# Altium integrated library TI Data Converters Analog to Digital Converter.IntLib: 2197 symbols (part 154 of 168)
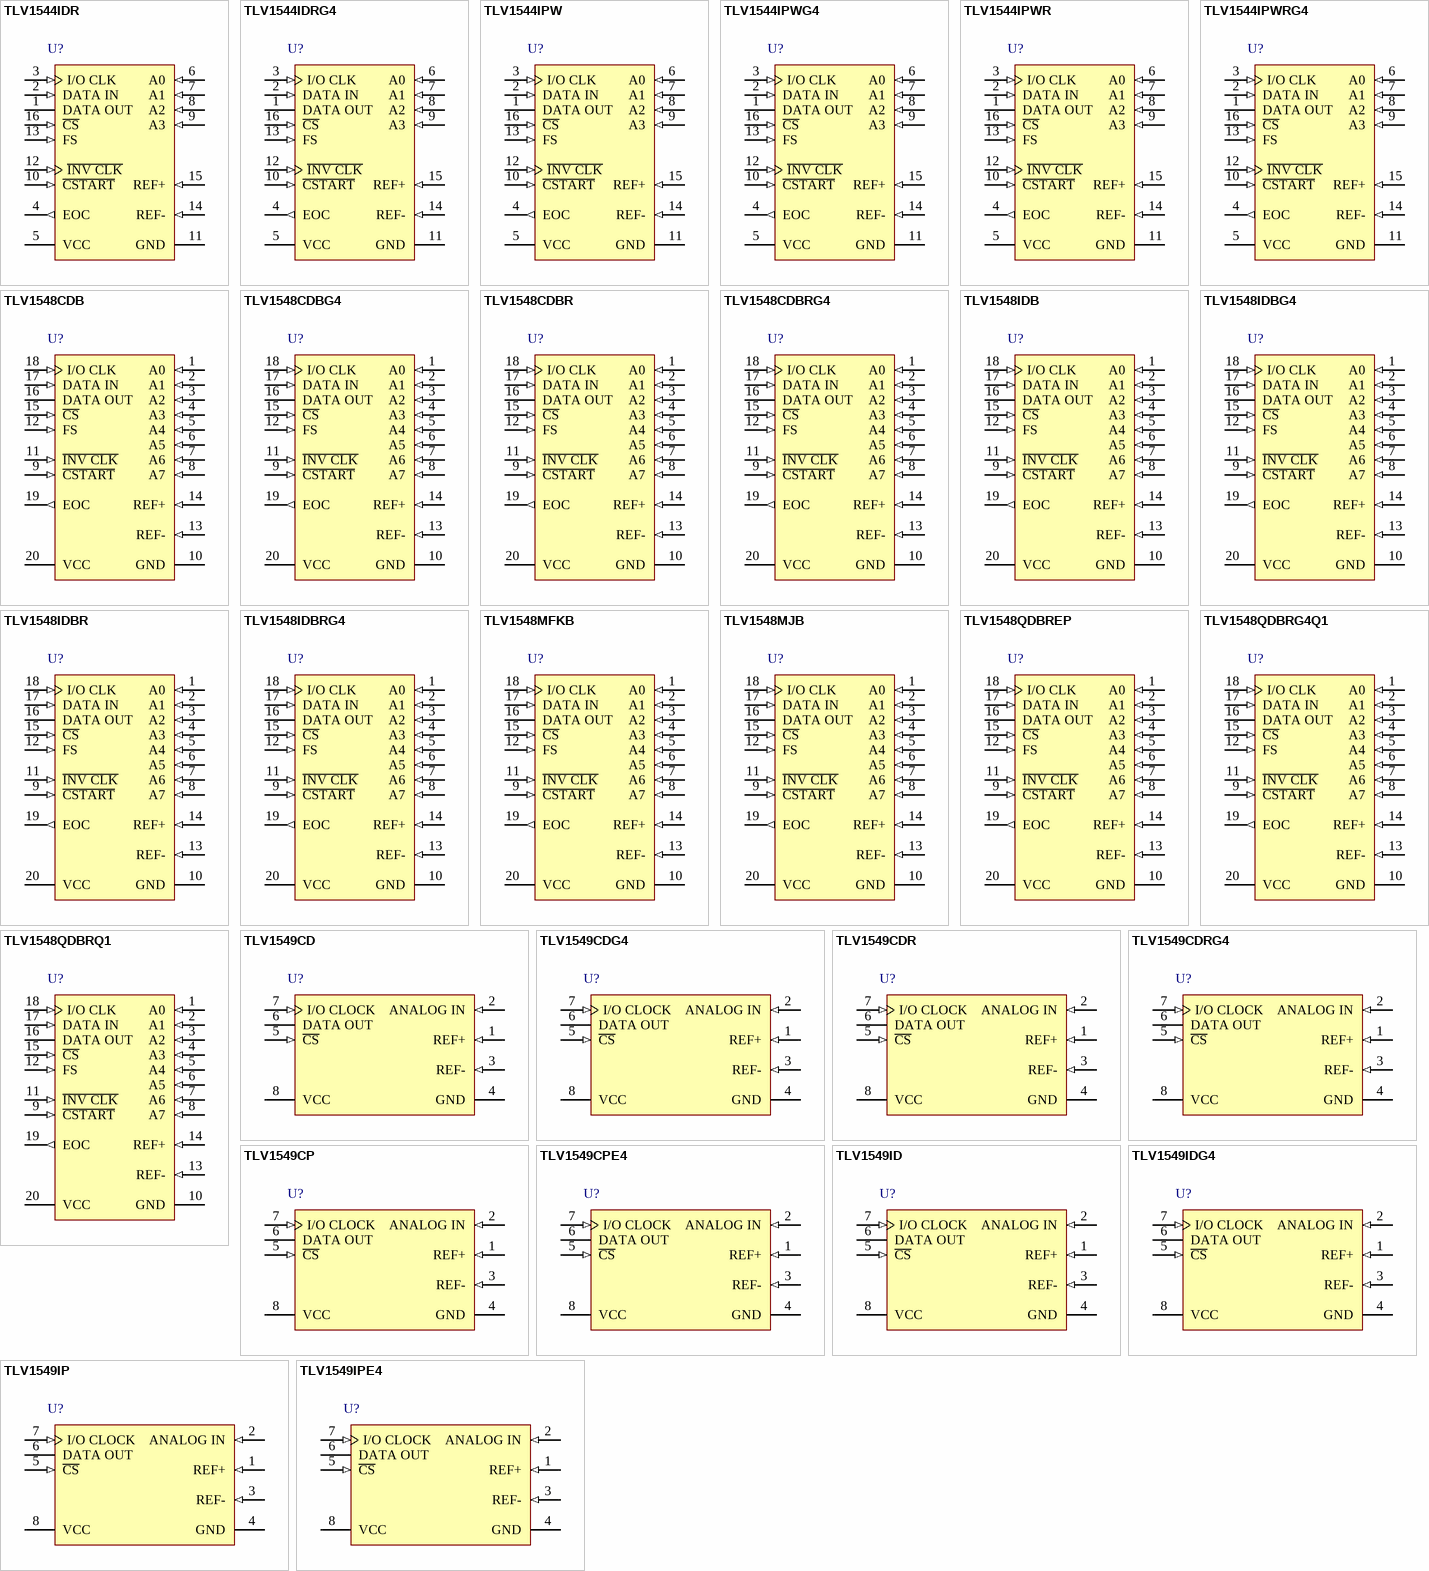
[diagram p279: symbols TLV1544IDR to TLV1549IPE4]

## TLV1548CDBRG4
designator U?
10-Bit 85 kSPS ADC Serial Out, Programable Power / Power Down / Conversion Rate, TMS320 DSP / SPI / QPSI Compatible, 8 Channel, 0 to 70 degC, 20-pin SOP (DB20), Green (RoHS & no Sb/Br); Manufacturer: Texas Instruments; PartNumber: TLV1548CDBRG4; # Input Channels: 8; Analog Voltage AV/DD(Max)(V): 5.5; Analog Voltage AV/DD(Min)(V): 2.7; Architecture: SAR; INL(Max)(+/-LSB): 1; Interface: Serial SPI; Resolution(Bits): 10; Sample Rate (max)(SPS): 85k; SubFamily: Precision ADC (<=10MSPS); DatasheetVersion: SLAS139C; PackageVersion: 4040065/E, 12/2001; PackageReference: DB20; PackageDescription: 20-Pin Plastic Small Outline, Body 5.3 x 7.2 mm, Pitch 0.65 mm; Supplier 1: Digi-Key; Supplier Part Number 1: 296-27543-ND; Supplier 2: Mouser; Supplier Part Number 2: 595-ADS58C48IPFP; Digital Supply(Max)(V): 5.5; Digital Supply(Min)(V): 2.7; Eco-Plan: Green (RoHS & no Sb/Br); Mounting Technology: Surface Mount; Code_JEDEC: MO-150; ComponentLink1Description: Manufacturer URL; ComponentLink1URL: http://www.ti.com/; ComponentLink2Description: Datasheet; ComponentLink2URL: http://www.ti.com/general/docs/lit/getliterature.tsp?genericPartNumber=TLV1548&fileType=pdf; ComponentLink3Description: Package Specification; ComponentLink3URL: http://www.ti.com/lit/ml/msso002e/msso002e.pdf
footprint TI-DB20_N (SOP, 20-Leads, Body 7.2x5.3mm, Pitch 0.65mm, IPC Medium Density)
footprint TI-DB20_L (SOP, 20-Leads, Body 7.2x5.3mm, Pitch 0.65mm, IPC High Density)
footprint TI-DB20_M (SOP, 20-Leads, Body 7.2x5.3mm, Pitch 0.65mm, IPC Low Density)
pins: 1 A0 (in) "Analog inputs. The analog inputs are internally multiplexed. (For a source impedance greater than 1 kohm, the asynchronous start should be used to increase the sampling time.)", 2 A1 (in) "Analog inputs. The analog inputs are internally multiplexed. (For a source impedance greater than 1 kohm, the asynchronous start should be used to increase the sampling time.)", 3 A2 (in) "Analog inputs. The analog inputs are internally multiplexed. (For a source impedance greater than 1 kohm, the asynchronous start should be used to increase the sampling time.)", 4 A3 (in) "Analog inputs. The analog inputs are internally multiplexed. (For a source impedance greater than 1 kohm, the asynchronous start should be used to increase the sampling time.)", 5 A4 (in) "Analog inputs. The analog inputs are internally multiplexed. (For a source impedance greater than 1 kohm, the asynchronous start should be used to increase the sampling time.)", 6 A5 (in) "Analog inputs. The analog inputs are internally multiplexed. (For a source impedance greater than 1 kohm, the asynchronous start should be used to increase the sampling time.)", 7 A6 (in) "Analog inputs. The analog inputs are internally multiplexed. (For a source impedance greater than 1 kohm, the asynchronous start should be used to increase the sampling time.)", 8 A7 (in) "Analog inputs. The analog inputs are internally multiplexed. (For a source impedance greater than 1 kohm, the asynchronous start should be used to increase the sampling time.)", 9 ~{CSTART} (in) "Sampling/conversion start control. C\S\T\A\R\T\ controls the start of the sampling of an analog input from a selected multiplex channel. A high-to-low transition starts the sampling of the analog input signal. A low-to-high (See Datasheet)", 10 GND (power) "Ground return for internal circuitry. All voltage measurements are with respect to GND, unless otherwise noted.", 11 ~{INV CLK} (in) "Inverted clock input. I\N\V\ \C\L\K\ is tied to GND when an inverted I/O CLK is used as the source of the input clock. This affects both microprocessor and DSP interfaces. I\N\V\ \C\L\K\ is tied to VCC if I/O CLK is not (See Datasheet)", 12 FS (in) "DSP frame synchronization input. FS indicates the start of a serial data frame into or out of the device. FS is tied to VCC when interfacing the device with a microprocessor.", 13 REF- (in) "Lower reference voltage (nominally ground)", 14 REF+ (in) "Upper reference voltage (nominally VCC ). The maximum input voltage range is determined by the difference between the voltages applied to REF+ and REF-.", 15 ~{CS} (in) "Chip select. A high-to-low transition on C\S\ resets the internal counters and controls and enables DATA IN, DATA OUT, and I/O CLK within the maximum setup time. A low-to-high transition disables DATA IN, DATA OUT, and I/O (See Datasheet)", 16 DATA OUT (hiz) "The 3-state serial output for the A/D conversion result. DATA OUT is in the high-impedance state when C\S\ is high and active when C\S\ is low. With a valid C\S\, DATA OUT is removed from the high-impedance state and is (See Datasheet)", 17 DATA IN (in) "Serial data input. The 4-bit serial data selects the desired analog input and test voltage to be converted next in a normal cycle. These bits can also set the conversion rate and enable the power-down mode.", 18 I/O CLK (in) "Input/output clock. I/O CLK receives the serial I/O clock input in the two modes and performs the following four functions in each mode:", 19 EOC (out) "End of conversion. EOC goes from a high to a low logic level on the tenth rising (microprocessor mode) or tenth falling (DSP mode) edge of I/O CLK and remains low until the conversion is complete and data is ready for (See Datasheet)", 20 VCC (power) "Positive supply voltage"

## TLV1548IDB
designator U?
10-Bit 85 kSPS ADC Serial Out, Programable Power / Power Down / Conversion Rate, TMS320 DSP / SPI / QPSI Compatible, 8 Channel, -40 to 85 degC, 20-pin SOP (DB20), Green (RoHS & no Sb/Br); Manufacturer: Texas Instruments; PartNumber: TLV1548IDB; # Input Channels: 8; Analog Voltage AV/DD(Max)(V): 5.5; Analog Voltage AV/DD(Min)(V): 2.7; Architecture: SAR; INL(Max)(+/-LSB): 1; Interface: Serial SPI; Resolution(Bits): 10; Sample Rate (max)(SPS): 85k; SubFamily: Precision ADC (<=10MSPS); DatasheetVersion: SLAS139C; PackageVersion: 4040065/E, 12/2001; PackageReference: DB20; PackageDescription: 20-Pin Plastic Small Outline, Body 5.3 x 7.2 mm, Pitch 0.65 mm; Supplier 1: Digi-Key; Supplier Part Number 1: ADS58C48IPFPR-ND; Supplier 2: Mouser; Supplier Part Number 2: 595-ADS58C48IPFPR; Digital Supply(Max)(V): 5.5; Digital Supply(Min)(V): 2.7; Eco-Plan: Green (RoHS & no Sb/Br); Mounting Technology: Surface Mount; Code_JEDEC: MO-150; ComponentLink1Description: Manufacturer URL; ComponentLink1URL: http://www.ti.com/; ComponentLink2Description: Datasheet; ComponentLink2URL: http://www.ti.com/general/docs/lit/getliterature.tsp?genericPartNumber=TLV1548&fileType=pdf; ComponentLink3Description: Package Specification; ComponentLink3URL: http://www.ti.com/lit/ml/msso002e/msso002e.pdf
footprint TI-DB20_N (SOP, 20-Leads, Body 7.2x5.3mm, Pitch 0.65mm, IPC Medium Density)
footprint TI-DB20_L (SOP, 20-Leads, Body 7.2x5.3mm, Pitch 0.65mm, IPC High Density)
footprint TI-DB20_M (SOP, 20-Leads, Body 7.2x5.3mm, Pitch 0.65mm, IPC Low Density)
pins: 1 A0 (in) "Analog inputs. The analog inputs are internally multiplexed. (For a source impedance greater than 1 kohm, the asynchronous start should be used to increase the sampling time.)", 2 A1 (in) "Analog inputs. The analog inputs are internally multiplexed. (For a source impedance greater than 1 kohm, the asynchronous start should be used to increase the sampling time.)", 3 A2 (in) "Analog inputs. The analog inputs are internally multiplexed. (For a source impedance greater than 1 kohm, the asynchronous start should be used to increase the sampling time.)", 4 A3 (in) "Analog inputs. The analog inputs are internally multiplexed. (For a source impedance greater than 1 kohm, the asynchronous start should be used to increase the sampling time.)", 5 A4 (in) "Analog inputs. The analog inputs are internally multiplexed. (For a source impedance greater than 1 kohm, the asynchronous start should be used to increase the sampling time.)", 6 A5 (in) "Analog inputs. The analog inputs are internally multiplexed. (For a source impedance greater than 1 kohm, the asynchronous start should be used to increase the sampling time.)", 7 A6 (in) "Analog inputs. The analog inputs are internally multiplexed. (For a source impedance greater than 1 kohm, the asynchronous start should be used to increase the sampling time.)", 8 A7 (in) "Analog inputs. The analog inputs are internally multiplexed. (For a source impedance greater than 1 kohm, the asynchronous start should be used to increase the sampling time.)", 9 ~{CSTART} (in) "Sampling/conversion start control. C\S\T\A\R\T\ controls the start of the sampling of an analog input from a selected multiplex channel. A high-to-low transition starts the sampling of the analog input signal. A low-to-high (See Datasheet)", 10 GND (power) "Ground return for internal circuitry. All voltage measurements are with respect to GND, unless otherwise noted.", 11 ~{INV CLK} (in) "Inverted clock input. I\N\V\ \C\L\K\ is tied to GND when an inverted I/O CLK is used as the source of the input clock. This affects both microprocessor and DSP interfaces. I\N\V\ \C\L\K\ is tied to VCC if I/O CLK is not (See Datasheet)", 12 FS (in) "DSP frame synchronization input. FS indicates the start of a serial data frame into or out of the device. FS is tied to VCC when interfacing the device with a microprocessor.", 13 REF- (in) "Lower reference voltage (nominally ground)", 14 REF+ (in) "Upper reference voltage (nominally VCC ). The maximum input voltage range is determined by the difference between the voltages applied to REF+ and REF-.", 15 ~{CS} (in) "Chip select. A high-to-low transition on C\S\ resets the internal counters and controls and enables DATA IN, DATA OUT, and I/O CLK within the maximum setup time. A low-to-high transition disables DATA IN, DATA OUT, and I/O (See Datasheet)", 16 DATA OUT (hiz) "The 3-state serial output for the A/D conversion result. DATA OUT is in the high-impedance state when C\S\ is high and active when C\S\ is low. With a valid C\S\, DATA OUT is removed from the high-impedance state and is (See Datasheet)", 17 DATA IN (in) "Serial data input. The 4-bit serial data selects the desired analog input and test voltage to be converted next in a normal cycle. These bits can also set the conversion rate and enable the power-down mode.", 18 I/O CLK (in) "Input/output clock. I/O CLK receives the serial I/O clock input in the two modes and performs the following four functions in each mode:", 19 EOC (out) "End of conversion. EOC goes from a high to a low logic level on the tenth rising (microprocessor mode) or tenth falling (DSP mode) edge of I/O CLK and remains low until the conversion is complete and data is ready for (See Datasheet)", 20 VCC (power) "Positive supply voltage"

## TLV1548IDBG4
designator U?
10-Bit 85 kSPS ADC Serial Out, Programable Power / Power Down / Conversion Rate, TMS320 DSP / SPI / QPSI Compatible, 8 Channel, -40 to 85 degC, 20-pin SOP (DB20), Green (RoHS & no Sb/Br); Manufacturer: Texas Instruments; PartNumber: TLV1548IDBG4; # Input Channels: 8; Analog Voltage AV/DD(Max)(V): 5.5; Analog Voltage AV/DD(Min)(V): 2.7; Architecture: SAR; INL(Max)(+/-LSB): 1; Interface: Serial SPI; Resolution(Bits): 10; Sample Rate (max)(SPS): 85k; SubFamily: Precision ADC (<=10MSPS); DatasheetVersion: SLAS139C; PackageVersion: 4040065/E, 12/2001; PackageReference: DB20; PackageDescription: 20-Pin Plastic Small Outline, Body 5.3 x 7.2 mm, Pitch 0.65 mm; Supplier 1: Digi-Key; Supplier Part Number 1: ADS1298CZXGR-ND; Supplier 2: Newark; Supplier Part Number 2: 79R7801; Supplier 3: Mouser; Supplier Part Number 3: 595-ADS1298CZXGR; Digital Supply(Max)(V): 5.5; Digital Supply(Min)(V): 2.7; Eco-Plan: Green (RoHS & no Sb/Br); Mounting Technology: Surface Mount; Code_JEDEC: MO-150; ComponentLink1Description: Manufacturer URL; ComponentLink1URL: http://www.ti.com/; ComponentLink2Description: Datasheet; ComponentLink2URL: http://www.ti.com/general/docs/lit/getliterature.tsp?genericPartNumber=TLV1548&fileType=pdf; ComponentLink3Description: Package Specification; ComponentLink3URL: http://www.ti.com/lit/ml/msso002e/msso002e.pdf
footprint TI-DB20_N (SOP, 20-Leads, Body 7.2x5.3mm, Pitch 0.65mm, IPC Medium Density)
footprint TI-DB20_L (SOP, 20-Leads, Body 7.2x5.3mm, Pitch 0.65mm, IPC High Density)
footprint TI-DB20_M (SOP, 20-Leads, Body 7.2x5.3mm, Pitch 0.65mm, IPC Low Density)
pins: 1 A0 (in) "Analog inputs. The analog inputs are internally multiplexed. (For a source impedance greater than 1 kohm, the asynchronous start should be used to increase the sampling time.)", 2 A1 (in) "Analog inputs. The analog inputs are internally multiplexed. (For a source impedance greater than 1 kohm, the asynchronous start should be used to increase the sampling time.)", 3 A2 (in) "Analog inputs. The analog inputs are internally multiplexed. (For a source impedance greater than 1 kohm, the asynchronous start should be used to increase the sampling time.)", 4 A3 (in) "Analog inputs. The analog inputs are internally multiplexed. (For a source impedance greater than 1 kohm, the asynchronous start should be used to increase the sampling time.)", 5 A4 (in) "Analog inputs. The analog inputs are internally multiplexed. (For a source impedance greater than 1 kohm, the asynchronous start should be used to increase the sampling time.)", 6 A5 (in) "Analog inputs. The analog inputs are internally multiplexed. (For a source impedance greater than 1 kohm, the asynchronous start should be used to increase the sampling time.)", 7 A6 (in) "Analog inputs. The analog inputs are internally multiplexed. (For a source impedance greater than 1 kohm, the asynchronous start should be used to increase the sampling time.)", 8 A7 (in) "Analog inputs. The analog inputs are internally multiplexed. (For a source impedance greater than 1 kohm, the asynchronous start should be used to increase the sampling time.)", 9 ~{CSTART} (in) "Sampling/conversion start control. C\S\T\A\R\T\ controls the start of the sampling of an analog input from a selected multiplex channel. A high-to-low transition starts the sampling of the analog input signal. A low-to-high (See Datasheet)", 10 GND (power) "Ground return for internal circuitry. All voltage measurements are with respect to GND, unless otherwise noted.", 11 ~{INV CLK} (in) "Inverted clock input. I\N\V\ \C\L\K\ is tied to GND when an inverted I/O CLK is used as the source of the input clock. This affects both microprocessor and DSP interfaces. I\N\V\ \C\L\K\ is tied to VCC if I/O CLK is not (See Datasheet)", 12 FS (in) "DSP frame synchronization input. FS indicates the start of a serial data frame into or out of the device. FS is tied to VCC when interfacing the device with a microprocessor.", 13 REF- (in) "Lower reference voltage (nominally ground)", 14 REF+ (in) "Upper reference voltage (nominally VCC ). The maximum input voltage range is determined by the difference between the voltages applied to REF+ and REF-.", 15 ~{CS} (in) "Chip select. A high-to-low transition on C\S\ resets the internal counters and controls and enables DATA IN, DATA OUT, and I/O CLK within the maximum setup time. A low-to-high transition disables DATA IN, DATA OUT, and I/O (See Datasheet)", 16 DATA OUT (hiz) "The 3-state serial output for the A/D conversion result. DATA OUT is in the high-impedance state when C\S\ is high and active when C\S\ is low. With a valid C\S\, DATA OUT is removed from the high-impedance state and is (See Datasheet)", 17 DATA IN (in) "Serial data input. The 4-bit serial data selects the desired analog input and test voltage to be converted next in a normal cycle. These bits can also set the conversion rate and enable the power-down mode.", 18 I/O CLK (in) "Input/output clock. I/O CLK receives the serial I/O clock input in the two modes and performs the following four functions in each mode:", 19 EOC (out) "End of conversion. EOC goes from a high to a low logic level on the tenth rising (microprocessor mode) or tenth falling (DSP mode) edge of I/O CLK and remains low until the conversion is complete and data is ready for (See Datasheet)", 20 VCC (power) "Positive supply voltage"

## TLV1548IDBR
designator U?
10-Bit 85 kSPS ADC Serial Out, Programable Power / Power Down / Conversion Rate, TMS320 DSP / SPI / QPSI Compatible, 8 Channel, -40 to 85 degC, 20-pin SOP (DB20), Green (RoHS & no Sb/Br); Manufacturer: Texas Instruments; PartNumber: TLV1548IDBR; # Input Channels: 8; Analog Voltage AV/DD(Max)(V): 5.5; Analog Voltage AV/DD(Min)(V): 2.7; Architecture: SAR; INL(Max)(+/-LSB): 1; Interface: Serial SPI; Resolution(Bits): 10; Sample Rate (max)(SPS): 85k; SubFamily: Precision ADC (<=10MSPS); DatasheetVersion: SLAS139C; PackageVersion: 4040065/E, 12/2001; PackageReference: DB20; PackageDescription: 20-Pin Plastic Small Outline, Body 5.3 x 7.2 mm, Pitch 0.65 mm; Supplier 1: Digi-Key; Supplier Part Number 1: 296-27516-2-ND; Supplier 2: Digi-Key; Supplier Part Number 2: 296-27516-1-ND; Supplier 3: Digi-Key; Supplier Part Number 3: 296-27516-6-ND; Supplier 4: Farnell; Supplier Part Number 4: 1828726; Supplier 5: Farnell; Supplier Part Number 5: 1825746; Supplier 6: Newark; Supplier Part Number 6: 77R3938; Supplier 7: Mouser; Supplier Part Number 7: 595-ADS1298CZXGT; Digital Supply(Max)(V): 5.5; Digital Supply(Min)(V): 2.7; Eco-Plan: Green (RoHS & no Sb/Br); Mounting Technology: Surface Mount; Code_JEDEC: MO-150; ComponentLink1Description: Manufacturer URL; ComponentLink1URL: http://www.ti.com/; ComponentLink2Description: Datasheet; ComponentLink2URL: http://www.ti.com/general/docs/lit/getliterature.tsp?genericPartNumber=TLV1548&fileType=pdf; ComponentLink3Description: Package Specification; ComponentLink3URL: http://www.ti.com/lit/ml/msso002e/msso002e.pdf
footprint TI-DB20_N (SOP, 20-Leads, Body 7.2x5.3mm, Pitch 0.65mm, IPC Medium Density)
footprint TI-DB20_L (SOP, 20-Leads, Body 7.2x5.3mm, Pitch 0.65mm, IPC High Density)
footprint TI-DB20_M (SOP, 20-Leads, Body 7.2x5.3mm, Pitch 0.65mm, IPC Low Density)
pins: 1 A0 (in) "Analog inputs. The analog inputs are internally multiplexed. (For a source impedance greater than 1 kohm, the asynchronous start should be used to increase the sampling time.)", 2 A1 (in) "Analog inputs. The analog inputs are internally multiplexed. (For a source impedance greater than 1 kohm, the asynchronous start should be used to increase the sampling time.)", 3 A2 (in) "Analog inputs. The analog inputs are internally multiplexed. (For a source impedance greater than 1 kohm, the asynchronous start should be used to increase the sampling time.)", 4 A3 (in) "Analog inputs. The analog inputs are internally multiplexed. (For a source impedance greater than 1 kohm, the asynchronous start should be used to increase the sampling time.)", 5 A4 (in) "Analog inputs. The analog inputs are internally multiplexed. (For a source impedance greater than 1 kohm, the asynchronous start should be used to increase the sampling time.)", 6 A5 (in) "Analog inputs. The analog inputs are internally multiplexed. (For a source impedance greater than 1 kohm, the asynchronous start should be used to increase the sampling time.)", 7 A6 (in) "Analog inputs. The analog inputs are internally multiplexed. (For a source impedance greater than 1 kohm, the asynchronous start should be used to increase the sampling time.)", 8 A7 (in) "Analog inputs. The analog inputs are internally multiplexed. (For a source impedance greater than 1 kohm, the asynchronous start should be used to increase the sampling time.)", 9 ~{CSTART} (in) "Sampling/conversion start control. C\S\T\A\R\T\ controls the start of the sampling of an analog input from a selected multiplex channel. A high-to-low transition starts the sampling of the analog input signal. A low-to-high (See Datasheet)", 10 GND (power) "Ground return for internal circuitry. All voltage measurements are with respect to GND, unless otherwise noted.", 11 ~{INV CLK} (in) "Inverted clock input. I\N\V\ \C\L\K\ is tied to GND when an inverted I/O CLK is used as the source of the input clock. This affects both microprocessor and DSP interfaces. I\N\V\ \C\L\K\ is tied to VCC if I/O CLK is not (See Datasheet)", 12 FS (in) "DSP frame synchronization input. FS indicates the start of a serial data frame into or out of the device. FS is tied to VCC when interfacing the device with a microprocessor.", 13 REF- (in) "Lower reference voltage (nominally ground)", 14 REF+ (in) "Upper reference voltage (nominally VCC ). The maximum input voltage range is determined by the difference between the voltages applied to REF+ and REF-.", 15 ~{CS} (in) "Chip select. A high-to-low transition on C\S\ resets the internal counters and controls and enables DATA IN, DATA OUT, and I/O CLK within the maximum setup time. A low-to-high transition disables DATA IN, DATA OUT, and I/O (See Datasheet)", 16 DATA OUT (hiz) "The 3-state serial output for the A/D conversion result. DATA OUT is in the high-impedance state when C\S\ is high and active when C\S\ is low. With a valid C\S\, DATA OUT is removed from the high-impedance state and is (See Datasheet)", 17 DATA IN (in) "Serial data input. The 4-bit serial data selects the desired analog input and test voltage to be converted next in a normal cycle. These bits can also set the conversion rate and enable the power-down mode.", 18 I/O CLK (in) "Input/output clock. I/O CLK receives the serial I/O clock input in the two modes and performs the following four functions in each mode:", 19 EOC (out) "End of conversion. EOC goes from a high to a low logic level on the tenth rising (microprocessor mode) or tenth falling (DSP mode) edge of I/O CLK and remains low until the conversion is complete and data is ready for (See Datasheet)", 20 VCC (power) "Positive supply voltage"

## TLV1548IDBRG4
designator U?
10-Bit 85 kSPS ADC Serial Out, Programable Power / Power Down / Conversion Rate, TMS320 DSP / SPI / QPSI Compatible, 8 Channel, -40 to 85 degC, 20-pin SOP (DB20), Green (RoHS & no Sb/Br); Manufacturer: Texas Instruments; PartNumber: TLV1548IDBRG4; # Input Channels: 8; Analog Voltage AV/DD(Max)(V): 5.5; Analog Voltage AV/DD(Min)(V): 2.7; Architecture: SAR; INL(Max)(+/-LSB): 1; Interface: Serial SPI; Resolution(Bits): 10; Sample Rate (max)(SPS): 85k; SubFamily: Precision ADC (<=10MSPS); DatasheetVersion: SLAS139C; PackageVersion: 4040065/E, 12/2001; PackageReference: DB20; PackageDescription: 20-Pin Plastic Small Outline, Body 5.3 x 7.2 mm, Pitch 0.65 mm; Supplier 1: Digi-Key; Supplier Part Number 1: 296-27734-ND; Supplier 2: Farnell; Supplier Part Number 2: 2120849; Supplier 3: Newark; Supplier Part Number 3: 99R9769; Supplier 4: Mouser; Supplier Part Number 4: 595-ADS1298IPAG; Digital Supply(Max)(V): 5.5; Digital Supply(Min)(V): 2.7; Eco-Plan: Green (RoHS & no Sb/Br); Mounting Technology: Surface Mount; Code_JEDEC: MO-150; ComponentLink1Description: Manufacturer URL; ComponentLink1URL: http://www.ti.com/; ComponentLink2Description: Datasheet; ComponentLink2URL: http://www.ti.com/general/docs/lit/getliterature.tsp?genericPartNumber=TLV1548&fileType=pdf; ComponentLink3Description: Package Specification; ComponentLink3URL: http://www.ti.com/lit/ml/msso002e/msso002e.pdf
footprint TI-DB20_N (SOP, 20-Leads, Body 7.2x5.3mm, Pitch 0.65mm, IPC Medium Density)
footprint TI-DB20_L (SOP, 20-Leads, Body 7.2x5.3mm, Pitch 0.65mm, IPC High Density)
footprint TI-DB20_M (SOP, 20-Leads, Body 7.2x5.3mm, Pitch 0.65mm, IPC Low Density)
pins: 1 A0 (in) "Analog inputs. The analog inputs are internally multiplexed. (For a source impedance greater than 1 kohm, the asynchronous start should be used to increase the sampling time.)", 2 A1 (in) "Analog inputs. The analog inputs are internally multiplexed. (For a source impedance greater than 1 kohm, the asynchronous start should be used to increase the sampling time.)", 3 A2 (in) "Analog inputs. The analog inputs are internally multiplexed. (For a source impedance greater than 1 kohm, the asynchronous start should be used to increase the sampling time.)", 4 A3 (in) "Analog inputs. The analog inputs are internally multiplexed. (For a source impedance greater than 1 kohm, the asynchronous start should be used to increase the sampling time.)", 5 A4 (in) "Analog inputs. The analog inputs are internally multiplexed. (For a source impedance greater than 1 kohm, the asynchronous start should be used to increase the sampling time.)", 6 A5 (in) "Analog inputs. The analog inputs are internally multiplexed. (For a source impedance greater than 1 kohm, the asynchronous start should be used to increase the sampling time.)", 7 A6 (in) "Analog inputs. The analog inputs are internally multiplexed. (For a source impedance greater than 1 kohm, the asynchronous start should be used to increase the sampling time.)", 8 A7 (in) "Analog inputs. The analog inputs are internally multiplexed. (For a source impedance greater than 1 kohm, the asynchronous start should be used to increase the sampling time.)", 9 ~{CSTART} (in) "Sampling/conversion start control. C\S\T\A\R\T\ controls the start of the sampling of an analog input from a selected multiplex channel. A high-to-low transition starts the sampling of the analog input signal. A low-to-high (See Datasheet)", 10 GND (power) "Ground return for internal circuitry. All voltage measurements are with respect to GND, unless otherwise noted.", 11 ~{INV CLK} (in) "Inverted clock input. I\N\V\ \C\L\K\ is tied to GND when an inverted I/O CLK is used as the source of the input clock. This affects both microprocessor and DSP interfaces. I\N\V\ \C\L\K\ is tied to VCC if I/O CLK is not (See Datasheet)", 12 FS (in) "DSP frame synchronization input. FS indicates the start of a serial data frame into or out of the device. FS is tied to VCC when interfacing the device with a microprocessor.", 13 REF- (in) "Lower reference voltage (nominally ground)", 14 REF+ (in) "Upper reference voltage (nominally VCC ). The maximum input voltage range is determined by the difference between the voltages applied to REF+ and REF-.", 15 ~{CS} (in) "Chip select. A high-to-low transition on C\S\ resets the internal counters and controls and enables DATA IN, DATA OUT, and I/O CLK within the maximum setup time. A low-to-high transition disables DATA IN, DATA OUT, and I/O (See Datasheet)", 16 DATA OUT (hiz) "The 3-state serial output for the A/D conversion result. DATA OUT is in the high-impedance state when C\S\ is high and active when C\S\ is low. With a valid C\S\, DATA OUT is removed from the high-impedance state and is (See Datasheet)", 17 DATA IN (in) "Serial data input. The 4-bit serial data selects the desired analog input and test voltage to be converted next in a normal cycle. These bits can also set the conversion rate and enable the power-down mode.", 18 I/O CLK (in) "Input/output clock. I/O CLK receives the serial I/O clock input in the two modes and performs the following four functions in each mode:", 19 EOC (out) "End of conversion. EOC goes from a high to a low logic level on the tenth rising (microprocessor mode) or tenth falling (DSP mode) edge of I/O CLK and remains low until the conversion is complete and data is ready for (See Datasheet)", 20 VCC (power) "Positive supply voltage"

## TLV1548MFKB
designator U?
Low-Voltage 10-Bit ADC with Serial Control and 8 Inputs, -55 to 125 degC, 20-pin LCC (FK20); Manufacturer: Texas Instruments; PartNumber: TLV1548MFKB; # Input Channels: 8; Analog Voltage AV/DD(Max)(V): 5.5; Analog Voltage AV/DD(Min)(V): 2.7; Architecture: SAR; Resolution(Bits): 10; SubFamily: High Speed ADC (>10MSPS); DatasheetVersion: SLAS139C; PackageVersion: 4040140/D, 01/2011; PackageReference: FK20; PackageDescription: 20-Pin Ceramic, Metal Chip Carrier, Body 8.89 x 8.89 mm, Pitch 1.27 mm; Supplier 1: Digi-Key; Supplier Part Number 1: ADS1298IPAGR-ND; Supplier 2: Mouser; Supplier Part Number 2: 595-ADS1298IPAGR; Digital Supply(Max)(V): 5.5; Digital Supply(Min)(V): 2.7; Mounting Technology: Surface Mount; Code_JEDEC: MS-004; ComponentLink1Description: Manufacturer URL; ComponentLink1URL: http://www.ti.com/; ComponentLink2Description: Datasheet; ComponentLink2URL: http://www.ti.com/general/docs/lit/getliterature.tsp?genericPartNumber=TLV1548M&fileType=pdf; ComponentLink3Description: Package Specification; ComponentLink3URL: http://www.ti.com/litv/pdf/mlcc006d
footprint TI-FK20_N (Leadless Chip Carrier, 20-Leads, Body 8.9x8.9mm, Pitch 1.27mm, IPC Medium Density)
footprint TI-FK20_L (Leadless Chip Carrier, 20-Leads, Body 8.9x8.9mm, Pitch 1.27mm, IPC High Density)
footprint TI-FK20_M (Leadless Chip Carrier, 20-Leads, Body 8.9x8.9mm, Pitch 1.27mm, IPC Low Density)
pins: 1 A0 (in) "Analog inputs. The analog inputs are internally multiplexed. (For a source impedance greater than 1k ohm, the asynchronous start should be used to increase the sampling time.)", 2 A1 (in) "Analog inputs. The analog inputs are internally multiplexed. (For a source impedance greater than 1k ohm, the asynchronous start should be used to increase the sampling time.)", 3 A2 (in) "Analog inputs. The analog inputs are internally multiplexed. (For a source impedance greater than 1k ohm, the asynchronous start should be used to increase the sampling time.)", 4 A3 (in) "Analog inputs. The analog inputs are internally multiplexed. (For a source impedance greater than 1k ohm, the asynchronous start should be used to increase the sampling time.)", 5 A4 (in) "Analog inputs. The analog inputs are internally multiplexed. (For a source impedance greater than 1k ohm, the asynchronous start should be used to increase the sampling time.)", 6 A5 (in) "Analog inputs. The analog inputs are internally multiplexed. (For a source impedance greater than 1k ohm, the asynchronous start should be used to increase the sampling time.)", 7 A6 (in) "Analog inputs. The analog inputs are internally multiplexed. (For a source impedance greater than 1k ohm, the asynchronous start should be used to increase the sampling time.)", 8 A7 (in) "Analog inputs. The analog inputs are internally multiplexed. (For a source impedance greater than 1k ohm, the asynchronous start should be used to increase the sampling time.)", 9 ~{CSTART} (in) "Sampling/conversion start control. C\S\T\A\R\T\ controls the start of the sampling of an analog input from a selected multiplex channel. A high-to-low transition starts the sampling of the analog input signal. A low-to-high (See Datasheet)", 10 GND (power) "Ground return for internal circuitry. All voltage measurements are with respect to GND, unless otherwise noted.", 11 ~{INV CLK} (in) "Inverted clock input. I\N\V\ \C\L\K\ is tied to GND when an inverted I/O CLK is used as the source of the input clock. This affects both microprocessor and DSP interfaces. I\N\V\ \C\L\K\ is tied to VCC if I/O CLK is not (See Datasheet)", 12 FS (in) "DSP frame synchronization input. FS indicates the start of a serial data frame into or out of the device. FS is tied to VCC when interfacing the device with a microprocessor.", 13 REF- (in) "Lower reference voltage (nominally ground)", 14 REF+ (in) "Upper reference voltage (nominally VCC ). The maximum input voltage range is determined by the difference between the voltages applied to REF+ and REF-.", 15 ~{CS} (in) "Chip select. A high-to-low transition on C\S\ resets the internal counters and controls and enables DATA IN, DATA OUT, and I/O CLK within the maximum setup time. A low-to-high transition disables DATA IN, DATA OUT, and I/O (See Datasheet)", 16 DATA OUT (hiz) "Three-state serial output of the A/D conversion result. DATA OUT is in the high-impedance state when C\S\ is high and active when C\S\ is low or after FS? (in DSP mode). With a valid C\S\ signal, DATA OUT is removed fro(See Datasheet)", 17 DATA IN (in) "Serial data input. The 4-bit serial data selects the desired analog input and test voltage to be converted next in a normal cycle. These bits can also set the conversion rate and enable the power-down mode. When operating in (See Datasheet)", 18 I/O CLK (in) "Input/output clock. I/O CLK receives the serial I/O clock input in the two modes and performs the following four functions in each mode", 19 EOC (out) "End of conversion. EOC goes from a high to a low logic level on the tenth rising (microprocessor mode) or tenth falling (DSP mode) edge of I/O CLK and remains low until the conversion is complete and data is ready for (See Datasheet)", 20 VCC (power) "Positive supply voltage"

## TLV1548MJB
designator U?
Low-Voltage 10-Bit ADC with Serial Control and 8 Inputs, -55 to 125 degC, 20-pin DIP (J20); Manufacturer: Texas Instruments; PartNumber: TLV1548MJB; # Input Channels: 8; Analog Voltage AV/DD(Max)(V): 5.5; Analog Voltage AV/DD(Min)(V): 2.7; Architecture: SAR; Resolution(Bits): 10; SubFamily: High Speed ADC (>10MSPS); DatasheetVersion: SLAS139C; PackageVersion: 4040083/F, 03/2003; PackageReference: J20; PackageDescription: 20-Pin Ceramic, Glass In-Line, Body 26.92 x 6.92 mm, Pitch 2.54 mm; Supplier 1: Digi-Key; Supplier Part Number 1: 296-27456-2-ND; Supplier 2: Digi-Key; Supplier Part Number 2: 296-27456-1-ND; Supplier 3: Digi-Key; Supplier Part Number 3: 296-27456-6-ND; Supplier 4: Newark; Supplier Part Number 4: 79R7807; Supplier 5: Mouser; Supplier Part Number 5: 595-ADS7924IRTER; Digital Supply(Max)(V): 5.5; Digital Supply(Min)(V): 2.7; Mounting Technology: Through Hole; ComponentLink1Description: Manufacturer URL; ComponentLink1URL: http://www.ti.com/; ComponentLink2Description: Datasheet; ComponentLink2URL: http://www.ti.com/general/docs/lit/getliterature.tsp?genericPartNumber=TLV1548M&fileType=pdf; ComponentLink3Description: Package Specification; ComponentLink3URL: http://www.ti.com/litv/pdf/mcer002d
footprint TI-J20 (DIP, 20-Leads, Body 26.92x6.92mm, Pitch 2.54mm)
pins: 1 A0 (in) "Analog inputs. The analog inputs are internally multiplexed. (For a source impedance greater than 1k ohm, the asynchronous start should be used to increase the sampling time.)", 2 A1 (in) "Analog inputs. The analog inputs are internally multiplexed. (For a source impedance greater than 1k ohm, the asynchronous start should be used to increase the sampling time.)", 3 A2 (in) "Analog inputs. The analog inputs are internally multiplexed. (For a source impedance greater than 1k ohm, the asynchronous start should be used to increase the sampling time.)", 4 A3 (in) "Analog inputs. The analog inputs are internally multiplexed. (For a source impedance greater than 1k ohm, the asynchronous start should be used to increase the sampling time.)", 5 A4 (in) "Analog inputs. The analog inputs are internally multiplexed. (For a source impedance greater than 1k ohm, the asynchronous start should be used to increase the sampling time.)", 6 A5 (in) "Analog inputs. The analog inputs are internally multiplexed. (For a source impedance greater than 1k ohm, the asynchronous start should be used to increase the sampling time.)", 7 A6 (in) "Analog inputs. The analog inputs are internally multiplexed. (For a source impedance greater than 1k ohm, the asynchronous start should be used to increase the sampling time.)", 8 A7 (in) "Analog inputs. The analog inputs are internally multiplexed. (For a source impedance greater than 1k ohm, the asynchronous start should be used to increase the sampling time.)", 9 ~{CSTART} (in) "Sampling/conversion start control. C\S\T\A\R\T\ controls the start of the sampling of an analog input from a selected multiplex channel. A high-to-low transition starts the sampling of the analog input signal. A low-to-high (See Datasheet)", 10 GND (power) "Ground return for internal circuitry. All voltage measurements are with respect to GND, unless otherwise noted.", 11 ~{INV CLK} (in) "Inverted clock input. I\N\V\ \C\L\K\ is tied to GND when an inverted I/O CLK is used as the source of the input clock. This affects both microprocessor and DSP interfaces. I\N\V\ \C\L\K\ is tied to VCC if I/O CLK is not (See Datasheet)", 12 FS (in) "DSP frame synchronization input. FS indicates the start of a serial data frame into or out of the device. FS is tied to VCC when interfacing the device with a microprocessor.", 13 REF- (in) "Lower reference voltage (nominally ground)", 14 REF+ (in) "Upper reference voltage (nominally VCC ). The maximum input voltage range is determined by the difference between the voltages applied to REF+ and REF-.", 15 ~{CS} (in) "Chip select. A high-to-low transition on C\S\ resets the internal counters and controls and enables DATA IN, DATA OUT, and I/O CLK within the maximum setup time. A low-to-high transition disables DATA IN, DATA OUT, and I/O (See Datasheet)", 16 DATA OUT (hiz) "Three-state serial output of the A/D conversion result. DATA OUT is in the high-impedance state when C\S\ is high and active when C\S\ is low or after FS? (in DSP mode). With a valid C\S\ signal, DATA OUT is removed fro(See Datasheet)", 17 DATA IN (in) "Serial data input. The 4-bit serial data selects the desired analog input and test voltage to be converted next in a normal cycle. These bits can also set the conversion rate and enable the power-down mode. When operating in (See Datasheet)", 18 I/O CLK (in) "Input/output clock. I/O CLK receives the serial I/O clock input in the two modes and performs the following four functions in each mode", 19 EOC (out) "End of conversion. EOC goes from a high to a low logic level on the tenth rising (microprocessor mode) or tenth falling (DSP mode) edge of I/O CLK and remains low until the conversion is complete and data is ready for (See Datasheet)", 20 VCC (power) "Positive supply voltage"

## TLV1548QDBREP
designator U?
Enhanced Product Low-Voltage 10-Bit ADC with Serial Control & 8 Analog Input, -40 to 125 degC, 20-pin SOP (DB20), Green (RoHS & no Sb/Br); Manufacturer: Texas Instruments; PartNumber: TLV1548QDBREP; # Input Channels: 8; Analog Voltage AV/DD(Max)(V): 5.5; Analog Voltage AV/DD(Min)(V): 2.7; Architecture: SAR; INL(Max)(+/-LSB): 1; Interface: Serial SPI; Resolution(Bits): 10; Sample Rate (max)(SPS): 85k; SubFamily: Precision ADC (<=10MSPS); DatasheetVersion: SGLS171A; PackageVersion: 4040065/E, 12/2001; PackageReference: DB20; PackageDescription: 20-Pin Plastic Small Outline, Body 5.3 x 7.2 mm, Pitch 0.65 mm; Supplier 1: Digi-Key; Supplier Part Number 1: 296-27524-2-ND; Supplier 2: Digi-Key; Supplier Part Number 2: 296-27524-1-ND; Supplier 3: Digi-Key; Supplier Part Number 3: 296-27524-6-ND; Supplier 4: Farnell; Supplier Part Number 4: 1829663; Supplier 5: Newark; Supplier Part Number 5: 77R3940; Supplier 6: Mouser; Supplier Part Number 6: 595-ADS7924IRTET; Digital Supply(Max)(V): 5.5; Digital Supply(Min)(V): 2.7; Eco-Plan: Green (RoHS & no Sb/Br); Mounting Technology: Surface Mount; Code_JEDEC: MO-150; ComponentLink1Description: Manufacturer URL; ComponentLink1URL: http://www.ti.com/; ComponentLink2Description: Datasheet; ComponentLink2URL: http://www.ti.com/general/docs/lit/getliterature.tsp?genericPartNumber=TLV1548-EP&fileType=pdf; ComponentLink3Description: Package Specification; ComponentLink3URL: http://www.ti.com/lit/ml/msso002e/msso002e.pdf
footprint TI-DB20_N (SOP, 20-Leads, Body 7.2x5.3mm, Pitch 0.65mm, IPC Medium Density)
footprint TI-DB20_L (SOP, 20-Leads, Body 7.2x5.3mm, Pitch 0.65mm, IPC High Density)
footprint TI-DB20_M (SOP, 20-Leads, Body 7.2x5.3mm, Pitch 0.65mm, IPC Low Density)
pins: 1 A0 (in) "Analog inputs. The analog inputs are internally multiplexed. (For a source impedance greater than 1k ohm, the asynchronous start should be used to increase the sampling time.)", 2 A1 (in) "Analog inputs. The analog inputs are internally multiplexed. (For a source impedance greater than 1k ohm, the asynchronous start should be used to increase the sampling time.)", 3 A2 (in) "Analog inputs. The analog inputs are internally multiplexed. (For a source impedance greater than 1k ohm, the asynchronous start should be used to increase the sampling time.)", 4 A3 (in) "Analog inputs. The analog inputs are internally multiplexed. (For a source impedance greater than 1k ohm, the asynchronous start should be used to increase the sampling time.)", 5 A4 (in) "Analog inputs. The analog inputs are internally multiplexed. (For a source impedance greater than 1k ohm, the asynchronous start should be used to increase the sampling time.)", 6 A5 (in) "Analog inputs. The analog inputs are internally multiplexed. (For a source impedance greater than 1k ohm, the asynchronous start should be used to increase the sampling time.)", 7 A6 (in) "Analog inputs. The analog inputs are internally multiplexed. (For a source impedance greater than 1k ohm, the asynchronous start should be used to increase the sampling time.)", 8 A7 (in) "Analog inputs. The analog inputs are internally multiplexed. (For a source impedance greater than 1k ohm, the asynchronous start should be used to increase the sampling time.)", 9 ~{CSTART} (in) "Sampling/conversion start control. C\S\T\A\R\T\ controls the start of the sampling of an analog input from a selected multiplex channel. A high-to-low transition starts the sampling of the analog input signal. A low-to-high (See Datasheet)", 10 GND (power) "Ground return for internal circuitry. All voltage measurements are with respect to GND, unless otherwise noted.", 11 ~{INV CLK} (in) "Inverted clock input. I\N\V\ \C\L\K\ is tied to GND when an inverted I/O CLK is used as the source of the input clock. This affects both microprocessor and DSP interfaces. I\N\V\ \C\L\K\ is tied to VCC if I/O CLK is not (See Datasheet)", 12 FS (in) "DSP frame synchronization input. FS indicates the start of a serial data frame into or out of the device. FS is tied to VCC when interfacing the device with a microprocessor.", 13 REF- (in) "Lower reference voltage (nominally ground)", 14 REF+ (in) "Upper reference voltage (nominally VCC ). The maximum input voltage range is determined by the difference between the voltages applied to REF+ and REF-.", 15 ~{CS} (in) "Chip select. A high-to-low transition on C\S\ resets the internal counters and controls and enables DATA IN, DATA OUT, and I/O CLK within the maximum setup time. A low-to-high transition disables DATA IN, DATA OUT, and I/O (See Datasheet)", 16 DATA OUT (hiz) "Three-state serial output of the A/D conversion result. DATA OUT is in the high-impedance state when C\S\ is high and active when C\S\ is low or after FS? (in DSP mode). With a valid C\S\ signal, DATA OUT is removed fro(See Datasheet)", 17 DATA IN (in) "Serial data input. The 4-bit serial data selects the desired analog input and test voltage to be converted next in a normal cycle. These bits can also set the conversion rate and enable the power-down mode. When operating in (See Datasheet)", 18 I/O CLK (in) "Input/output clock. I/O CLK receives the serial I/O clock input in the two modes and performs the following four functions in each mode", 19 EOC (out) "End of conversion. EOC goes from a high to a low logic level on the tenth rising (microprocessor mode) or tenth falling (DSP mode) edge of I/O CLK and remains low until the conversion is complete and data is ready for (See Datasheet)", 20 VCC (power) "Positive supply voltage"

## TLV1548QDBRG4Q1
designator U?
Automotive Catalog Low-Voltage 10-Bit ADC with Serial Control & 8 Analog Inputs, -40 to 125 degC, 20-pin SOP (DB20), Green (RoHS & no Sb/Br); Manufacturer: Texas Instruments; PartNumber: TLV1548QDBRG4Q1; # Input Channels: 8; Analog Voltage AV/DD(Max)(V): 5.5; Analog Voltage AV/DD(Min)(V): 2.7; Architecture: SAR; INL(Max)(+/-LSB): 1; Interface: Serial SPI; Resolution(Bits): 10; Sample Rate (max)(SPS): 85k; SubFamily: Precision ADC (<=10MSPS); DatasheetVersion: SGLS172B; PackageVersion: 4040065/E, 12/2001; PackageReference: DB20; PackageDescription: 20-Pin Plastic Small Outline, Body 5.3 x 7.2 mm, Pitch 0.65 mm; Supplier 1: Digi-Key; Supplier Part Number 1: 296-27417-5-ND; Supplier 2: Farnell; Supplier Part Number 2: 1823861; Supplier 3: Newark; Supplier Part Number 3: 77R1719; Supplier 4: Mouser; Supplier Part Number 4: 595-ADS1148IPW; Digital Supply(Max)(V): 5.5; Digital Supply(Min)(V): 2.7; Eco-Plan: Green (RoHS & no Sb/Br); Mounting Technology: Surface Mount; Code_JEDEC: MO-150; ComponentLink1Description: Manufacturer URL; ComponentLink1URL: http://www.ti.com/; ComponentLink2Description: Datasheet; ComponentLink2URL: http://www.ti.com/general/docs/lit/getliterature.tsp?genericPartNumber=TLV1548-Q1&fileType=pdf; ComponentLink3Description: Package Specification; ComponentLink3URL: http://www.ti.com/lit/ml/msso002e/msso002e.pdf
footprint TI-DB20_N (SOP, 20-Leads, Body 7.2x5.3mm, Pitch 0.65mm, IPC Medium Density)
footprint TI-DB20_L (SOP, 20-Leads, Body 7.2x5.3mm, Pitch 0.65mm, IPC High Density)
footprint TI-DB20_M (SOP, 20-Leads, Body 7.2x5.3mm, Pitch 0.65mm, IPC Low Density)
pins: 1 A0 (in) "Analog inputs. The analog inputs are internally multiplexed. (For a source impedance greater than 1 kohm, the asynchronous start should be used to increase the sampling time.)", 2 A1 (in) "Analog inputs. The analog inputs are internally multiplexed. (For a source impedance greater than 1 kohm, the asynchronous start should be used to increase the sampling time.)", 3 A2 (in) "Analog inputs. The analog inputs are internally multiplexed. (For a source impedance greater than 1 kohm, the asynchronous start should be used to increase the sampling time.)", 4 A3 (in) "Analog inputs. The analog inputs are internally multiplexed. (For a source impedance greater than 1 kohm, the asynchronous start should be used to increase the sampling time.)", 5 A4 (in) "Analog inputs. The analog inputs are internally multiplexed. (For a source impedance greater than 1 kohm, the asynchronous start should be used to increase the sampling time.)", 6 A5 (in) "Analog inputs. The analog inputs are internally multiplexed. (For a source impedance greater than 1 kohm, the asynchronous start should be used to increase the sampling time.)", 7 A6 (in) "Analog inputs. The analog inputs are internally multiplexed. (For a source impedance greater than 1 kohm, the asynchronous start should be used to increase the sampling time.)", 8 A7 (in) "Analog inputs. The analog inputs are internally multiplexed. (For a source impedance greater than 1 kohm, the asynchronous start should be used to increase the sampling time.)", 9 ~{CSTART} (in) "Sampling/conversion start control. C\S\T\A\R\T\ controls the start of the sampling of an analog input from a selected multiplex channel. A high-to-low transition starts the sampling of the analog input signal. A low-to-high (See Datasheet)", 10 GND (power) "Ground return for internal circuitry. All voltage measurements are with respect to GND, unless otherwise noted.", 11 ~{INV CLK} (in) "Inverted clock input. I\N\V\ \C\L\K\ is tied to GND when an inverted I/O CLK is used as the source of the input clock. This affects both microprocessor and DSP interfaces. I\N\V\ \C\L\K\ is tied to VCC if I/O CLK is not (See Datasheet)", 12 FS (in) "DSP frame synchronization input. FS indicates the start of a serial data frame into or out of the device. FS is tied to VCC when interfacing the device with a microprocessor.", 13 REF- (in) "Lower reference voltage (nominally ground)", 14 REF+ (in) "Upper reference voltage (nominally VCC ). The maximum input voltage range is determined by the difference between the voltages applied to REF+ and REF-.", 15 ~{CS} (in) "Chip select. A high-to-low transition on C\S\ resets the internal counters and controls and enables DATA IN, DATA OUT, and I/O CLK within the maximum setup time. A low-to-high transition disables DATA IN, DATA OUT, and I/O (See Datasheet)", 16 DATA OUT (hiz) "The 3-state serial output for the A/D conversion result. DATA OUT is in the high-impedance state when C\S\ is high and active when C\S\ is low. With a valid C\S\, DATA OUT is removed from the high-impedance state and is (See Datasheet)", 17 DATA IN (in) "Serial data input. The 4-bit serial data selects the desired analog input and test voltage to be converted next in a normal cycle. These bits can also set the conversion rate and enable the power-down mode.", 18 I/O CLK (in) "Input/output clock. I/O CLK receives the serial I/O clock input in the two modes and performs the following four functions in each mode:", 19 EOC (out) "End of conversion. EOC goes from a high to a low logic level on the tenth rising (microprocessor mode) or tenth falling (DSP mode) edge of I/O CLK and remains low until the conversion is complete and data is ready for (See Datasheet)", 20 VCC (power) "Positive supply voltage"